# EAGLE library part CREE-RGB-LED (library bike_lo_jack)
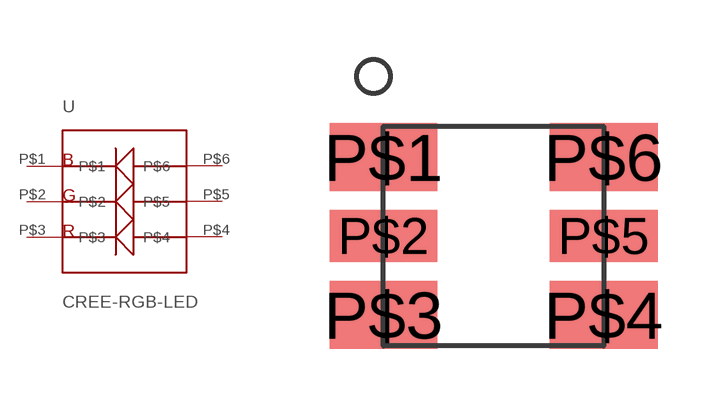
[diagram p0: symbol with the pads of CREE-RGB-LED; footprint CREE-RGB-LED]

Designator prefix -

## CREE-RGB-LED  [CREE-RGB-LED]
P$1  P$1
P$2  P$2
P$3  P$3
P$4  P$4
P$5  P$5
P$6  P$6

## Footprint CREE-RGB-LED (pad centres in mm)
smd 2.7 x 1.7: P$1 -2.75,1.975; P$3 -2.75,-1.975; P$4 2.75,-1.975; P$6 2.75,1.975
smd 2.7 x 1.3: P$2 -2.75,0; P$5 2.75,0